# Altium footprint library 3M_2900_0.PcbLib: 1 footprints
Each footprint in its own frame and in the unit in brackets; x right, y up, seen from the top. Pads: shape width x height; smd on the part's side, far side on the other; paste and mask are expansions set on the pad; w line width, h text height; cw(c..) or ccw(c..) is an arc to the next point about the centre after c.
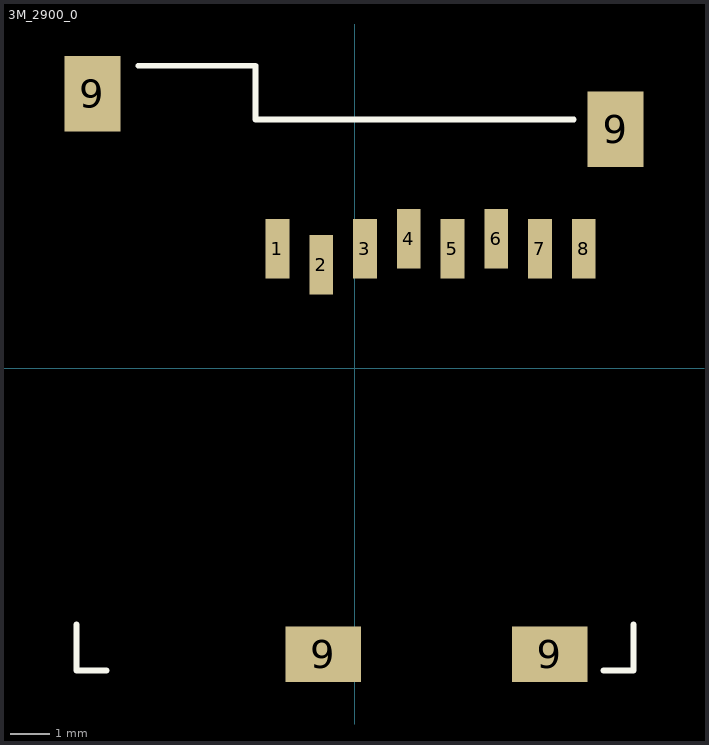
[diagram p0: the footprint, top view; thin cyan lines are the x and y axes]

## 3M_2900_0 [mm] "3M 2900 Series MicroSD connector"
pads (12):
  rect 0.6x1.5 smd: 1(-1.95,3) 2(-0.85,2.6) 3(0.25,3) 4(1.35,3.25) 5(2.45,3) 6(3.55,3.25) 7(4.65,3) 8(5.75,3)
  rect 1.4x1.9 smd: 9(-6.6,6.9) 9(6.55,6)
  rect 1.9x1.4 smd: 9(-0.8,-7.2) 9(4.9,-7.2)
Top Overlay:
  lines w0.15: -7,-6.45 -7,-7.6 -6.25,-7.6 ; -5.45,7.6 -2.5,7.6 -2.5,6.25 5.5,6.25 ; 6.25,-7.6 7,-7.6 7,-6.45
3D body "2908-05WB-MG.STEP": height 1.85, standoff 0, extent -7,-7.6 7,7.6